# Altium schematic symbol library TVMD.SchLib: 5 symbols
Pins are listed as number, name and electrical type; pins without a type are passive.

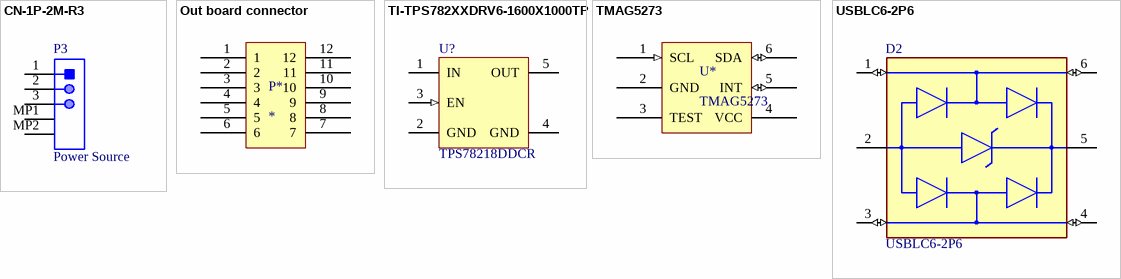
[diagram p0: symbols CN-1P-2M-R3 to USBLC6-2P6]

## CN-1P-2M-R3
designator P3, comment Power Source
Male Header, Pitch 1.25 mm, 1 x 3 Position, Height 4.7 mm, -40 to 85 degC, RoHS, Tape and Reel; Voltage Rating: 125V; Brand: Molex; Pitch: 1.25mm; Mounting Angle: Vertical; Number of Positions: 3; Current Rating: 1A; Product Type: Headers; Tradename: PicoBlade; Package Reference: 53398-0371; Factory Pack Quantity: 1000; Product Category: Headers&WireHousings; Package Description: Male Header, Pitch 1.25 mm, 1 x 3 Position, Height 4.7 mm; Manufacturer: Molex; Packaging: Reel; Datasheet URL: http://www.molex.com/pdm_docs/sd/533980371_sd.pdf; Type: Shrouded; Manufacturer URL: http://www.molex.com/; Datasheet Version: Rev. J, 09/2015; Number of Positions / Contacts: 3; RoHS: Details; Contact Plating: Tin; Mounting Technology: SurfaceMount; Termination Style: SMD; Housing Material: Nylon; Number of Rows: 1; Mounting Style: SMD/SMT; Series: 53398; Contact Material: PhosphorBronze
footprint FP-53261-0371-MFG
pins: 1, 2, 3, MP1, MP2

## Out board connector
designator P*
6 pins pcb connector
footprint Edge Connector
pins: 1, 2, 3, 4, 5, 6, 7, 8, 9, 10, 11, 12

## TI-TPS782XXDRV6-1600X1000TP
designator U?, comment TPS78218DDCR
Single Output LDO, 150 mA, Fixed 1.8 V Output, 2.2 to 5.5 V Input, with 0.5 uA Quiescent Current, 6-pin SON (DRV), -40 to 125 degC, Green (RoHS & no Sb/Br); Manufacturer: Texas Instruments; PartNumber: TPS78218DRVR; Vin(Max)(V): 5.5; Rating: Catalog; Vout Adj(Max)(V): 1.8; Iq(Typ)(mA): 0.0005; SubFamily: Single Channel LDO; Vdo(Typ)(mV): 130; Vin(Min)(V): 2.2; Iout(Max)(A): 0.15; Accuracy(%): 3; Mounting Technology: Surface Mount; PackageDescription: 6-Pin Plastic Small Outline No-Lead, Body 2 x 2 mm, Pitch 0.65 mm; PackageVersion: 4206925/E; PackageReference: DRV0006A; ComponentLink3Description: Package Specification; Fixed Output Options(V): 1.8; ComponentLink1Description: Manufacturer URL; DatasheetVersion: SBVS115B; Vout Adj(Min)(V): 1.8; ComponentLink2Description: Datasheet; Eco-Plan: Green (RoHS & no Sb/Br); ComponentLink2URL: http://www.ti.com/general/docs/lit/getliterature.tsp?genericPartNumber=TPS78218&fileType=pdf; ComponentLink3URL: http://www.ti.com/litv/pdf/mpds216d; ComponentLink1URL: http://www.ti.com/
footprint DRV0006A_V (SON, 6-Leads, Body 2x2mm, Pitch 0.65mm, Thermal Pad 1.6x1mm, TI Recommended)
footprint SOT-23-OT5_M (SOT23, 5-Leads, Body 2.9x1.7mm, Pitch 0.95mm, Lead Span 2.8mm, IPC Low Density)
pins: 1 IN (power) "Input pin. A small capacitor is needed from this pin to ground to assure stability. Typical input capacitor = 1.0uF. Both input and output capacitor grounds should be tied back to the IC ground with no significant impedance (See Datasheet)", 2 GND (power), 3 EN (in) "Driving the enable pin (EN) over 1.2V turns ON the regulator. Driving this pin below 0.4V puts the regulator into shutdown mode, reducing operating current to 18nA typical.", 4 GND (power) "ALL ground pins must be tied to ground for proper operation.", 5 OUT (power) "Regulated output voltage pin. A small (1uF) ceramic capacitor is needed from this pin to ground to assure stability."

## TMAG5273
designator U*
Low-Power Linear 3D Hall-Effect Sensor With I2C Interface
footprint SOT95P280X145-6N (SOT23, 6-Leads, Body 2.90x2.80mm, Pitch 0.95mm, IPC Medium Density)
pins: 1 SCL (in), 2 GND (power), 3 TEST "TI Test Pin. Connect to ground in application.", 4 VCC (power), 5 INT (io) "Interrupt input/ output. If not used and connected to ground, set MASK_INTB = 1b.", 6 SDA (io)

## USBLC6-2P6
designator D2
TVS DIODE 5.25V 17V SOT666; Min Breakdown Voltage: 6V; Power Line Protection: Yes; Element Configuration: Dual; Test Current: 1mA; Working Voltage: 5V; Number of Channels: 2; Max Reverse Leakage Current: 150nA; Direction: Unidirectional; Peak Pulse Current: 5A; Number of Elements: 1; Capacitance: 3.5pF; Max Breakdown Voltage: 6V; Height: 0.6mm; Depth: 1.3mm; Contact Plating: Tin; Reverse Breakdown Voltage: 6V; REACH SVHC: No SVHC; Operating Supply Voltage: 5V; Width: 1.3mm; Max Operating Temperature: 125°C; Reverse Standoff Voltage: 5V; ESD Protection: Yes; Package Quantity: 1; Termination: SMD/SMT; Length: 1.7mm; Leakage Current: 150nA; Number of Bidirectional Channels: 2; Case/Package: SOT-666; Min Operating Temperature: -40°C; Number of Pins: 6; Clamping Voltage: 17V; Breakdown Voltage: 6V; Lead Free: Lead Free; Radiation Hardening: No; Packaging: Tape and Reel; Mount: Surface Mount; Polarity: Unidirectional
footprint FP-SOT-666-MFG
footprint SOT-23-6 USBLC6
pins: 1 I/O1 (io), 2 GND (power), 3 I/O2 (io), 4 I/O2 (io), 5 VBUS (power), 6 I/O1 (io)